# Altium footprint library breadboard_30.PcbLib: 1 footprints
Each footprint in its own frame and in the unit in brackets; x right, y up, seen from the top. Pads: shape width x height; smd on the part's side, far side on the other; paste and mask are expansions set on the pad; w line width, h text height; cw(c..) or ccw(c..) is an arc to the next point about the centre after c.
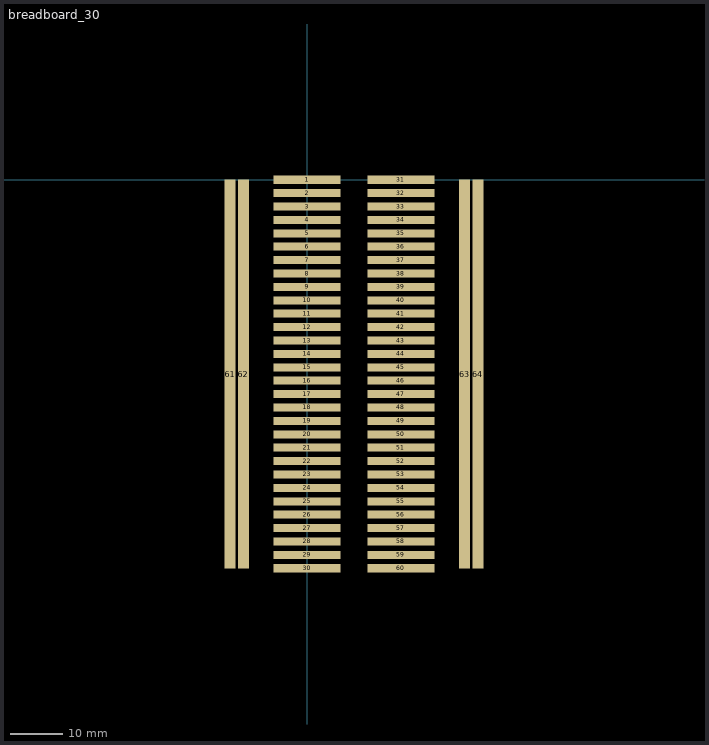
[diagram p0: the footprint, top view; thin cyan lines are the x and y axes]

## breadboard_30 [mil]
pads (64):
  rect 500x60 smd: 1(0,0) 2(0,-100) 3(0,-200) 4(0,-300) 5(0,-400) 6(0,-500) 7(0,-600) 8(0,-700) 9(0,-800) 10(0,-900) 11(0,-1000) 12(0,-1100) 13(0,-1200) 14(0,-1300) 15(0,-1400) 16(0,-1500) 17(0,-1600) 18(0,-1700) 19(0,-1800) 20(0,-1900) 21(0,-2000) 22(0,-2100) 23(0,-2200) 24(0,-2300) 25(0,-2400) 26(0,-2500) 27(0,-2600) 28(0,-2700) 29(0,-2800) 30(0,-2900) 31(700,0) 32(700,-100) 33(700,-200) 34(700,-300) 35(700,-400) 36(700,-500) 37(700,-600) 38(700,-700) 39(700,-800) 40(700,-900) 41(700,-1000) 42(700,-1100) 43(700,-1200) 44(700,-1300) 45(700,-1400) 46(700,-1500) 47(700,-1600) 48(700,-1700) 49(700,-1800) 50(700,-1900) 51(700,-2000) 52(700,-2100) 53(700,-2200) 54(700,-2300) 55(700,-2400) 56(700,-2500) 57(700,-2600) 58(700,-2700) 59(700,-2800) 60(700,-2900)
  rect 80x2900 smd: 61(-575,-1450) 62(-475,-1450) 63(1175,-1450) 64(1275,-1450)